# Altium integrated library SMTU2032-LF.IntLib: 1 symbol
Pins are listed as number, name and electrical type; pins without a type are passive.

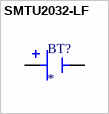
[diagram p0: symbol SMTU2032-LF]

## SMTU2032-LF
designator BT?
Surface Mount Glass Filled Liquid Crystal Polymer CR2032 Battery Holder; MF: Renata; MP: SMTU2032-LF; SnapEDA_Link: https://www.snapeda.com/parts/SMTU2032-LF/Renata/view-part/?ref=snap; Package: None; Value: *; Check_prices: https://www.snapeda.com/parts/SMTU2032-LF/Renata/view-part/?ref=eda
footprint BAT_SMTU2032-LF
pins: N, P